# Altium footprint library Exam.PcbLib: 16 footprints
Each footprint in its own frame and in the unit in brackets; x right, y up, seen from the top. Pads: shape width x height; smd on the part's side, far side on the other; paste and mask are expansions set on the pad; w line width, h text height; cw(c..) or ccw(c..) is an arc to the next point about the centre after c.
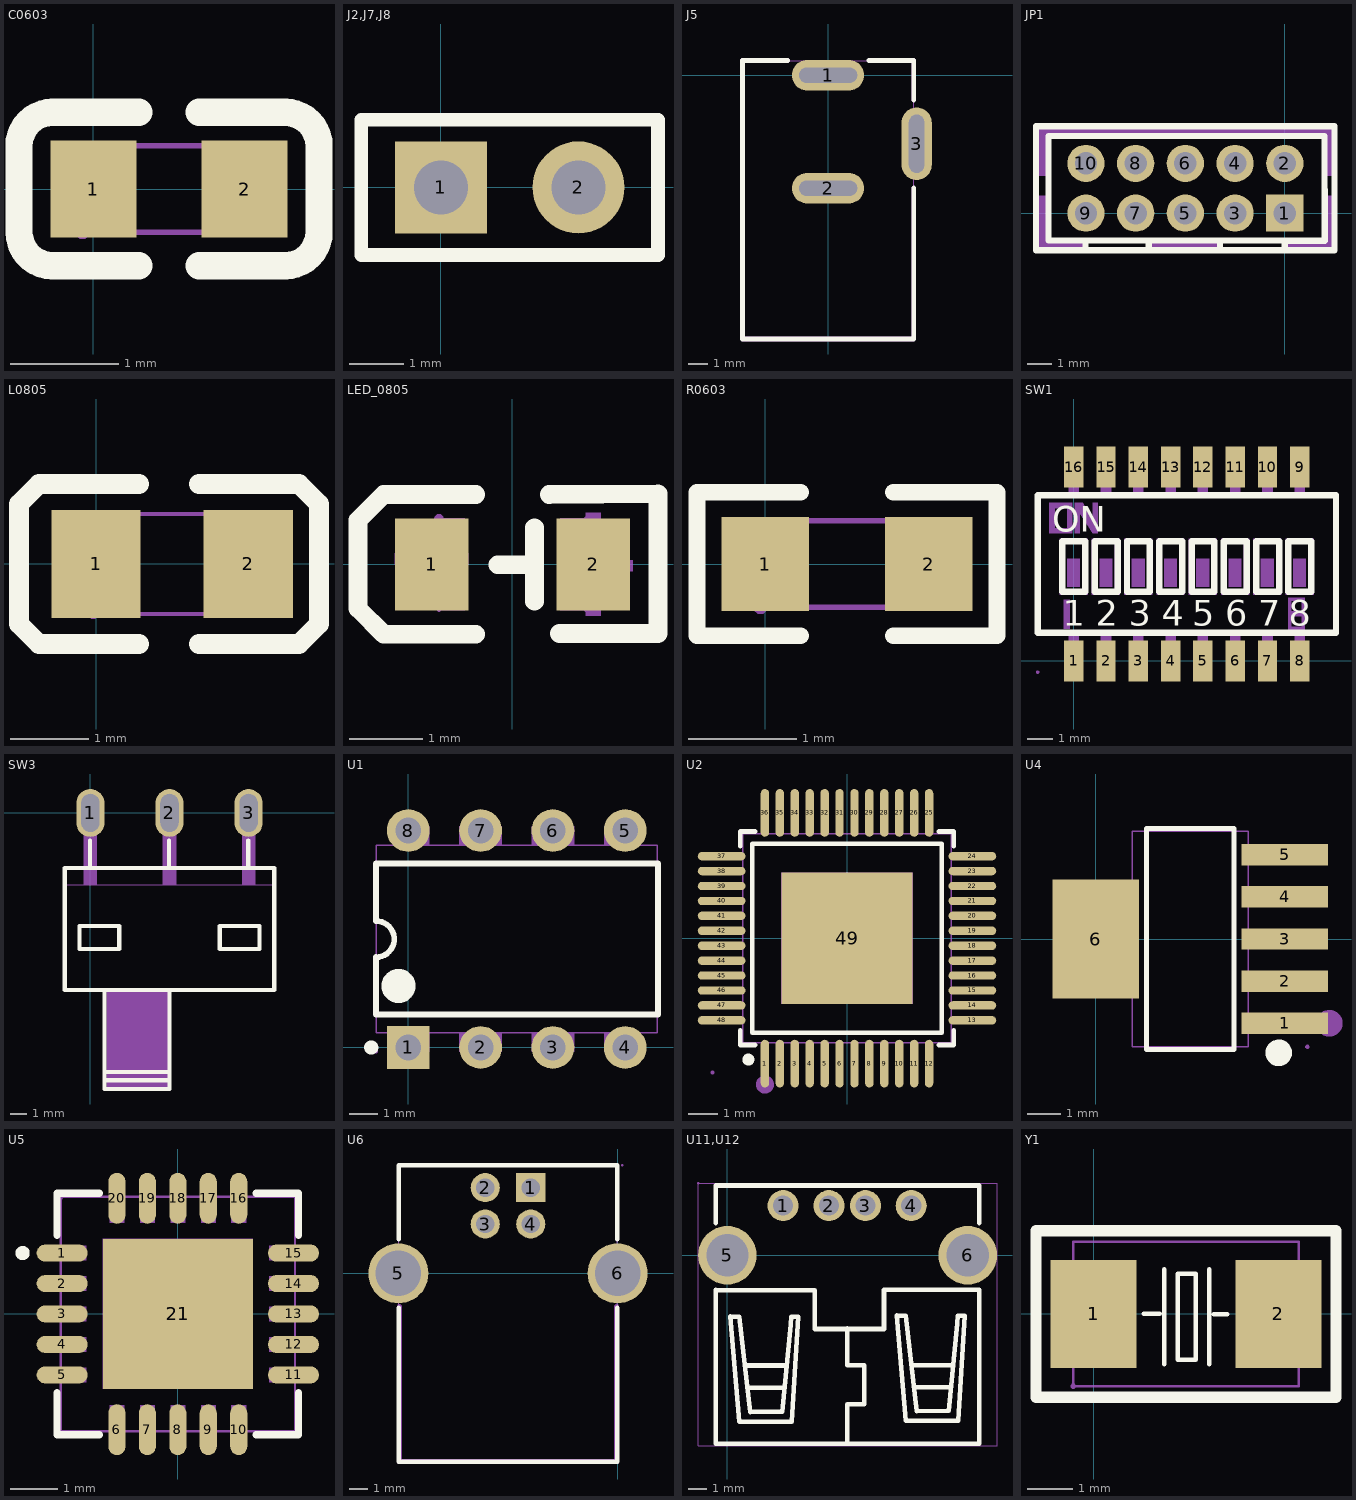
[diagram p0: the footprints below, top view; thin cyan lines are the x and y axes]

## C0603 [mm]
pads (2):
  rect 0.8x0.9 smd: 1(0,0) 2(1.4,0)
Top Overlay:
  lines w0.254: 0.42,-0.71 -0.38,-0.71 cw(c-0.38,-0.4) -0.69,-0.4 -0.69,0.4 cw(c-0.38,0.4) -0.38,0.71 0.42,0.71 ; 0.98,-0.71 1.78,-0.71 ccw(c1.78,-0.4) 2.09,-0.4 2.09,0.4 ccw(c1.78,0.4) 1.78,0.71 0.98,0.71
Mechanical 15:
  region: -0.04,-0.4 -0.04,-0.375 -0.075,-0.34 -0.125,-0.34 -0.16,-0.375 -0.16,-0.4 -0.16,-0.425 -0.125,-0.46 -0.075,-0.46 -0.04,-0.425
  region: -0.1,-0.4 -0.1,0.4 0.2,0.4 0.2,-0.4
  region: 1.5,-0.4 1.5,0.4 1.2,0.4 1.2,-0.4
  lines w0.051: -0.1,-0.4 -0.1,0.4 1.5,0.4 1.5,-0.4 -0.1,-0.4

## J2,J7,J8 [mm]
pads (2):
  rect 1.7x1.7 hole 1: 1(0,0)
  round 1.7 hole 1: 2(2.54,0)
Top Overlay:
  lines w0.254: -1.47,-1.25 4.01,-1.25 4.01,1.25 -1.47,1.25 -1.47,-1.25
Mechanical 15:
  region: 2.14,0.1 2.94,0.1 2.94,-0.1 2.14,-0.1
  region: -0.4,0.1 0.4,0.1 0.4,-0.1 -0.4,-0.1
  region: -1.41,-1.25 -1.41,-1.225 -1.445,-1.19 -1.495,-1.19 -1.53,-1.225 -1.53,-1.25 -1.53,-1.275 -1.495,-1.31 -1.445,-1.31 -1.41,-1.275
  lines w0.051: -1.47,-1.25 -1.47,1.25 4.01,1.25 4.01,-1.25 -1.47,-1.25

## J5 [mm]
pads (3):
  oval 3.8x1.6 hole 0.8 slot 3.05 at 0 deg paste-2539.97 mask+0.05: 1(0,0) 2(0,-5.93)
  oval 1.6x3.8 hole 0.8 slot 3.05 at 90 deg copper offset 0,0 paste-2539.97 mask+0.05: 3(4.65,-3.6)
Top Overlay:
  lines w0.254: -2.134,0.77 -4.5,0.77 -4.5,-13.85 4.5,-13.85 4.5,-5.93 ; 2.135,0.77 4.5,0.77 4.5,-1.3
Mechanical 6:
  lines w0.254: -2.135,0.77 -4.5,0.77 -4.5,-13.85 4.5,-13.85 4.5,-5.93 ; 2.135,0.77 4.5,0.77 4.5,-1.3
Mechanical 15:
  region: 4.8,-4.6 4.5,-4.6 4.5,-2.6 4.8,-2.6
  region: 1.25,0.15 1.25,-0.15 -1.25,-0.15 -1.25,0.15
  region: -1.25,-5.78 1.25,-5.78 1.25,-6.08 -1.25,-6.08
  region: -4.44,0.28 -4.44,0.305 -4.475,0.34 -4.525,0.34 -4.56,0.305 -4.56,0.28 -4.56,0.255 -4.525,0.22 -4.475,0.22 -4.44,0.255
  lines w0.051: -4.5,-13.85 -4.5,0.77 4.5,0.77 4.5,-13.85 -4.5,-13.85

## JP1 [mm]
pads (10):
  rect 1.5x1.5 hole 0.9 paste-2539.97 mask+0.05: 1(0,0)
  round 1.5 hole 0.9 paste-2539.97 mask+0.05: 2(0,2) 3(-2,0) 4(-2,2) 5(-4,0) 6(-4,2) 7(-6,0) 8(-6,2) 9(-8,0) 10(-8,2)
Top Overlay:
  lines w0.254: -10.01,-1.5 -10.01,3.5 ; -10,-1.5 2,-1.5 2,3.5 -10,3.5 ; -9.51,3.083 -9.51,-1.1 -8.019,-1.1 -8.019,-1.5 ; -9.51,3.09 1.6,3.099 1.61,-1.11 0,-1.11 0,-1.5 ; -8.19,-1.1 0.522,-1.1 ; -5.48,-1.5 -5.48,-1.1 ; -2.61,-1.5 -2.61,-1.1
Mechanical 6:
  region: -5.45,-1.5 -2.57,-1.5 -2.57,-1.12 -2.55,-1.1 -5.47,-1.1
  region: -8.1,-1.1 -9.5,-1.1 -9.5,0.7 -10,0.7 -10,-1.5 -8.1,-1.5
  region: 0.1,-1.1 1.5,-1.1 1.5,0.7 2,0.7 2,-1.5 0.1,-1.5
  region: -9.5,3.1 -9.5,1.5 -10,1.5 -10,3.5 2,3.5 2,1.5 1.6,1.5 1.6,3.1
Mechanical 15:
  region: 2.06,-1.5 2.06,-1.475 2.025,-1.44 1.975,-1.44 1.94,-1.475 1.94,-1.5 1.94,-1.525 1.975,-1.56 2.025,-1.56 2.06,-1.525
  region: -7.75,2.25 -7.75,1.75 -8.25,1.75 -8.25,2.25
  region: -7.75,0.25 -7.75,-0.25 -8.25,-0.25 -8.25,0.25
  region: 0.25,-0.25 -0.25,-0.25 -0.25,0.25 0.25,0.25
  region: -1.75,-0.25 -2.25,-0.25 -2.25,0.25 -1.75,0.25
  region: -3.75,-0.25 -4.25,-0.25 -4.25,0.25 -3.75,0.25
  region: -5.75,-0.25 -6.25,-0.25 -6.25,0.25 -5.75,0.25
  region: 0.25,2.25 0.25,1.75 -0.25,1.75 -0.25,2.25
  region: -1.75,2.25 -1.75,1.75 -2.25,1.75 -2.25,2.25
  region: -3.75,2.25 -3.75,1.75 -4.25,1.75 -4.25,2.25
  region: -5.75,2.25 -5.75,1.75 -6.25,1.75 -6.25,2.25
  lines w0.051: -10,-1.5 -10,3.5 2,3.5 2,-1.5 -10,-1.5

## L0805 [mm]
pads (2):
  rect 1.133x1.377 smd paste-100 mask+0.051: 1(0,0) 2(1.932,0)
Top Overlay:
  lines w0.254: 0.545,-1.016 -0.725,-1.016 -0.979,-0.762 -0.979,-0.635 -0.979,0.762 -0.725,1.016 -0.598,1.016 0.545,1.016 ; 1.307,-1.016 2.45,-1.016 2.577,-1.016 2.831,-0.762 2.831,0.635 2.831,0.762 2.577,1.016 1.307,1.016
Top Paste:
  region: 0.606,-0.22 0.606,0.22 0.221,0.689 -0.466,0.689 -0.566,0.589 -0.566,-0.588 -0.466,-0.688 0.221,-0.688
  region: 1.326,-0.22 1.326,0.22 1.711,0.689 2.399,0.689 2.499,0.589 2.499,-0.588 2.399,-0.688 1.711,-0.688
Mechanical 15:
  region: 0.026,-0.637 0.026,-0.613 -0.009,-0.577 -0.059,-0.577 -0.094,-0.612 -0.094,-0.637 -0.094,-0.662 -0.059,-0.697 -0.009,-0.697 0.026,-0.662
  region: 1.966,-0.637 1.966,0.638 1.566,0.638 1.566,-0.637
  region: -0.034,-0.637 -0.034,0.638 0.366,0.638 0.366,-0.637
  lines w0.051: -0.034,-0.637 -0.034,0.638 1.966,0.638 1.966,-0.637 -0.034,-0.637

## LED_0805 [mm]
pads (2):
  rect 1x1.25 smd: 1(-1.1,0) 2(1.1,0)
Top Overlay:
  lines w0.254: -0.5,-0.95 -1.75,-0.95 ; -0.5,0.95 -1.75,0.95 ; -0.2,-0.005 0.3,-0.005 ; 0.3,-0.5 0.3,0.5 ; 0.5,0.95 1.98,0.96 1.98,-0.94 0.64,-0.94 ; -1.75,-0.95 -2.1,-0.6 -2.1,0.6 -1.75,0.95 ; -1.75,-0.95 -1.75,-0.95 ; -1.75,0.95 -1.75,0.95
Mechanical 6:
  region: -1.6,0 -0.6,0 -0.6,0.15 -1.6,0.15
  region: 0.635,-0.094 1.635,-0.094 1.635,0.056 0.635,0.056
  region: 1,0.7 1.2,0.7 1.2,-0.7 1,-0.7
Mechanical 15:
  region: -0.94,0.625 -0.941,0.649 -0.976,0.683 -1.024,0.683 -1.059,0.649 -1.06,0.625 -1.059,0.601 -1.024,0.568 -0.976,0.568 -0.941,0.601 -0.94,0.625
  region: -0.65,-0.625 -1,-0.625 -1,0.625 -0.65,0.625
  region: 1,-0.625 0.65,-0.625 0.65,0.625 1,0.625
  lines w0.051: -1,-0.625 -1,0.625 ; 1,-0.625 1,0.625

## R0603 [mm]
pads (2):
  rect 0.806x0.864 smd paste-100 mask+0.051: 1(0,0) 2(1.507,0)
Top Overlay:
  lines w0.152: 0.327,-0.661 -0.632,-0.661 -0.632,0.661 0.327,0.661 ; 1.18,-0.661 2.138,-0.661 2.138,0.661 1.18,0.661
Top Paste:
  region: 1.948,0.45 1.148,0.45 1.098,0.4 1.098,0.172 1.468,0.172 1.468,-0.158 1.098,-0.158 1.098,-0.4 1.148,-0.45 1.948,-0.45 1.998,-0.4 1.998,0.4
  region: -0.442,-0.45 0.358,-0.45 0.408,-0.4 0.408,-0.172 0.038,-0.172 0.038,0.158 0.408,0.158 0.408,0.4 0.358,0.45 -0.442,0.45 -0.492,0.4 -0.492,-0.4
Mechanical 15:
  region: 0.013,-0.4 0.013,-0.375 -0.022,-0.34 -0.072,-0.34 -0.107,-0.375 -0.107,-0.4 -0.107,-0.425 -0.072,-0.46 -0.022,-0.46 0.013,-0.425
  region: -0.047,-0.4 -0.047,0.4 0.253,0.4 0.253,-0.4
  region: 1.553,-0.4 1.553,0.4 1.253,0.4 1.253,-0.4
  lines w0.051: -0.047,-0.4 -0.047,0.4 1.553,0.4 1.553,-0.4 -0.047,-0.4

## SW1 [mm]
pads (16):
  rect 0.76x1.6 smd: 1(0,0) 2(1.27,0) 3(2.54,0) 4(3.81,0) 5(5.08,0) 6(6.35,0) 7(7.62,0) 8(8.89,0) 9(8.89,7.63) 10(7.62,7.63) 11(6.35,7.63) 12(5.08,7.63) 13(3.81,7.63) 14(2.54,7.63) 15(1.27,7.63) 16(0,7.63)
Top Overlay:
  lines w0.254: -1.425,1.115 10.315,1.115 10.315,6.515 -1.425,6.515 -1.425,1.115 ; -0.445,2.715 -0.445,4.715 0.455,4.715 0.455,2.715 -0.445,2.715 ; 0.825,2.715 0.825,4.715 1.725,4.715 1.725,2.715 0.825,2.715 ; 2.095,2.715 2.095,4.715 2.995,4.715 2.995,2.715 2.095,2.715 ; 3.365,2.715 3.365,4.715 4.265,4.715 4.265,2.715 3.365,2.715 ; 4.635,2.715 4.635,4.715 5.535,4.715 5.535,2.715 4.635,2.715 ; 5.905,2.715 5.905,4.715 6.805,4.715 6.805,2.715 5.905,2.715 ; 7.175,2.715 7.175,4.715 8.075,4.715 8.075,2.715 7.175,2.715 ; 8.445,2.715 8.445,4.715 9.345,4.715 9.345,2.715 8.445,2.715
  text "ON" at -0.84,5.083 h1
  text "1" at -0.439,1.394 h1
  text "2" at 0.861,1.394 h1
  text "3" at 2.161,1.394 h1
  text "4" at 3.461,1.394 h1
  text "5" at 4.661,1.394 h1
  text "6" at 5.961,1.395 h1
  text "7" at 7.261,1.394 h1
  text "8" at 8.461,1.395 h1
Mechanical 6:
  drawing of 36 lines, arcs and shapes, not listed
Mechanical 15:
  drawing of 37 lines, arcs and shapes, not listed

## SW3 [mm]
pads (3):
  oval 1.7x2.9 hole 1.1 slot 2.3 at 90 deg paste-2539.97 mask+0.05: 1(0,0) 2(4.8,0) 3(9.6,0)
Top Overlay:
  lines w0.254: -1.55,-3.35 11.15,-3.35 ; -1.55,-3.344 -1.55,-10.75 11.15,-10.75 11.15,-3.395 ; -0.026,-3.175 -0.026,-1.681 ; 0.863,-16.75 0.863,-10.75 ; 0.863,-16.222 4.8,-16.222 ; 0.863,-15.714 4.8,-15.714 ; 0.9,-16.75 4.8,-16.75 4.8,-10.75 ; 4.774,-3.175 4.774,-1.681 ; 9.574,-3.175 9.574,-1.681 ; -0.661,-8.255 -0.661,-6.858 1.752,-6.858 1.752,-8.255 -0.661,-8.255 ; 7.848,-8.255 7.848,-6.858 10.261,-6.858 10.261,-8.255 7.848,-8.255
Mechanical 6:
  region: 1,-10.8 1,-16.7 4.7,-16.7 4.7,-10.8
Mechanical 15:
  region: -0.4,0.65 0.4,0.65 0.4,-4.36 -0.4,-4.36
  region: 9.2,0.65 10,0.65 10,-4.36 9.2,-4.36
  region: 4.4,0.65 5.2,0.65 5.2,-4.36 4.4,-4.36
  region: 9.2,0.65 10,0.65 10,-0.65 9.2,-0.65
  region: 4.4,0.65 5.2,0.65 5.2,-0.65 4.4,-0.65
  region: -0.4,0.65 0.4,0.65 0.4,-0.65 -0.4,-0.65
  region: -1.49,-10.75 -1.49,-10.725 -1.525,-10.69 -1.575,-10.69 -1.61,-10.725 -1.61,-10.75 -1.61,-10.775 -1.575,-10.81 -1.525,-10.81 -1.49,-10.775
  lines w0.051: -1.55,-10.75 11.15,-10.75 11.15,-4.35 -1.55,-4.35 -1.55,-10.75

## U1 [mm]
pads (8):
  rect 1.5x1.5 hole 0.9: 1(0,0)
  round 1.5 hole 0.9: 2(2.54,0) 3(5.08,0) 4(7.62,0) 5(7.62,7.62) 6(5.08,7.62) 7(2.54,7.62) 8(0,7.62)
Top Overlay:
  lines w0.2: -1.13,4.44 cw(c-1.13,3.805) -1.13,3.17 -1.13,3.175 -1.13,1.161 8.771,1.161 8.771,6.459 -1.13,6.459 -1.13,4.445 -1.13,4.45
  lines w0.25: -1.425,0 ccw(c-1.3,0.001) -1.175,0.001 ccw(c-1.3,0.001) -1.425,0.003
  lines w0.6: -0.64,2.159 ccw(c-0.34,2.162) -0.04,2.162 ccw(c-0.34,2.162) -0.64,2.164
Mechanical 15:
  region: 5.823,7.766 5.823,7.1 4.337,7.1 4.337,7.766
  region: 3.283,7.766 3.283,7.1 1.797,7.1 1.797,7.766
  region: 4.337,-0.146 4.337,0.52 5.823,0.52 5.823,-0.146
  region: 1.797,-0.146 1.797,0.52 3.283,0.52 3.283,-0.146
  region: 6.877,-0.146 6.877,0.52 7.848,0.52 7.848,-0.146
  region: 0.743,7.766 0.743,7.1 -0.228,7.1 -0.228,7.766
  region: 7.848,7.766 7.848,7.1 6.877,7.1 6.877,7.766
  region: -0.228,-0.146 -0.228,0.52 0.743,0.52 0.743,-0.146
  region: -0.228,0.146 0.228,0.146 0.228,-0.146 -0.228,-0.146
  region: 2.768,0.146 2.768,-0.146 2.312,-0.146 2.312,0.146
  region: 5.308,0.146 5.308,-0.146 4.852,-0.146 4.852,0.146
  region: 7.848,0.146 7.848,-0.146 7.392,-0.146 7.392,0.146
  region: 0.228,7.766 0.228,7.474 -0.228,7.474 -0.228,7.766
  region: 2.768,7.766 2.768,7.474 2.312,7.474 2.312,7.766
  region: 5.308,7.766 5.308,7.474 4.852,7.474 4.852,7.766
  region: 7.848,7.766 7.848,7.474 7.392,7.474 7.392,7.766
  region: -1.07,-0.146 -1.07,-0.121 -1.105,-0.086 -1.155,-0.086 -1.19,-0.121 -1.19,-0.146 -1.19,-0.171 -1.155,-0.206 -1.105,-0.206 -1.07,-0.171
  lines w0.051: -1.13,0.51 -1.13,7.11 8.75,7.11 8.75,0.51 -1.13,0.51

## U2 [mm]
pads (49):
  oval 0.28x1.6 smd: 1(-2.75,-4.2) 2(-2.25,-4.2) 3(-1.75,-4.2) 4(-1.25,-4.2) 5(-0.75,-4.2) 6(-0.25,-4.2) 7(0.25,-4.2) 8(0.75,-4.2) 9(1.25,-4.2) 10(1.75,-4.2) 11(2.25,-4.2) 12(2.75,-4.2) 25(2.75,4.2) 26(2.25,4.2) 27(1.75,4.2) 28(1.25,4.2) 29(0.75,4.2) 30(0.25,4.2) 31(-0.25,4.2) 32(-0.75,4.2) 33(-1.25,4.2) 34(-1.75,4.2) 35(-2.25,4.2) 36(-2.75,4.2)
  oval 1.6x0.28 smd: 13(4.2,-2.75) 14(4.2,-2.25) 15(4.2,-1.75) 16(4.2,-1.25) 17(4.2,-0.75) 18(4.2,-0.25) 19(4.2,0.25) 20(4.2,0.75) 21(4.2,1.25) 22(4.2,1.75) 23(4.2,2.25) 24(4.2,2.75) 37(-4.2,2.75) 38(-4.2,2.25) 39(-4.2,1.75) 40(-4.2,1.25) 41(-4.2,0.75) 42(-4.2,0.25) 43(-4.2,-0.25) 44(-4.2,-0.75) 45(-4.2,-1.25) 46(-4.2,-1.75) 47(-4.2,-2.25) 48(-4.2,-2.75)
  rect 4.4x4.4 smd: 49(0,0)
Top Overlay:
  circle w0.2: c-3.302,-4.064 r0.1
  lines w0.152: -3.576,-3.08 -3.576,-3.576 -3.08,-3.576 ; -3.576,3.08 -3.576,3.576 -3.08,3.576 ; 3.08,-3.576 3.576,-3.576 3.576,-3.08 ; 3.08,3.576 3.576,3.576 3.576,3.08 ; -3.171,-3.171 3.171,-3.171 3.171,3.171 -3.171,3.171 -3.171,-3.171
Mechanical 6:
  circle w0.3: c-2.75,-4.9 r0.15
Mechanical 15:
  drawing of 102 lines, arcs and shapes, not listed

## U4 [mm]
pads (6):
  rect 2.595x0.644 smd: 1(5.695,-2.54) 2(5.695,-1.27) 3(5.695,0) 4(5.695,1.27) 5(5.695,2.54)
  rect 2.595x3.6 smd: 6(0,0)
Top Overlay:
  circle w0.4: c5.515,-3.429 r0.2
  lines w0.152: 1.526,-3.326 4.169,-3.326 4.169,3.326 1.526,3.326 1.526,-3.326
Mechanical 6:
  circle w0.4: c7.039,-2.54 r0.2
Mechanical 15:
  region: 5.353,-2.77 5.353,-2.31 6.378,-2.31 6.378,-2.77
  region: 4.588,-2.77 4.588,-2.31 5.363,-2.31 5.363,-2.77
  region: 5.353,-1.5 5.353,-1.04 6.378,-1.04 6.378,-1.5
  region: 4.588,-1.5 4.588,-1.04 5.363,-1.04 5.363,-1.5
  region: 5.353,-0.23 5.353,0.23 6.378,0.23 6.378,-0.23
  region: 4.588,-0.23 4.588,0.23 5.363,0.23 5.363,-0.23
  region: 5.353,1.04 5.353,1.5 6.378,1.5 6.378,1.04
  region: 4.588,1.04 4.588,1.5 5.363,1.5 5.363,1.04
  region: 5.353,2.31 5.353,2.77 6.378,2.77 6.378,2.31
  region: 4.588,2.31 4.588,2.77 5.363,2.77 5.363,2.31
  region: 0.343,-1.5 0.343,1.5 -0.682,1.5 -0.682,-1.5
  region: 0.333,-1.5 0.333,1.5 1.108,1.5 1.108,-1.5
  region: 6.438,-3.25 6.438,-3.225 6.403,-3.19 6.353,-3.19 6.318,-3.225 6.318,-3.25 6.318,-3.275 6.353,-3.31 6.403,-3.31 6.438,-3.275
  lines w0.051: 1.098,-3.25 4.598,-3.25 4.598,3.25 1.098,3.25 1.098,-3.25

## U5 [mm]
pads (21):
  oval 1.087x0.364 smd paste-100 mask+0.051: 1(-2.468,1.3) 2(-2.468,0.65) 3(-2.468,0) 4(-2.468,-0.65) 5(-2.468,-1.3) 11(2.469,-1.3) 12(2.469,-0.65) 13(2.469,0) 14(2.469,0.65) 15(2.469,1.3)
  oval 0.364x1.087 smd paste-100 mask+0.051: 6(-1.3,-2.469) 7(-0.65,-2.469) 8(0,-2.469) 9(0.65,-2.469) 10(1.3,-2.469) 16(1.3,2.468) 17(0.65,2.468) 18(0,2.468) 19(-0.65,2.468) 20(-1.3,2.468)
  rect 3.2x3.2 smd paste-100 mask+0.051: 21(0,0)
Top Overlay:
  circle w0.153: c-3.312,1.3 r0.076
  lines w0.152: -2.576,-1.673 -2.576,-2.576 -1.673,-2.576 ; -2.576,1.673 -2.576,2.576 -1.673,2.576 ; 1.672,-2.576 2.576,-2.576 2.576,-1.673 ; 1.672,2.576 2.576,2.576 2.576,1.673
Top Paste:
  drawing of 21 lines, arcs and shapes, not listed
Mechanical 15:
  region: -2.44,2.5 -2.44,2.524 -2.475,2.559 -2.524,2.559 -2.559,2.524 -2.56,2.5 -2.559,2.475 -2.524,2.441 -2.475,2.441 -2.44,2.475
  region: -1.6,1.6 1.6,1.6 1.6,-1.6 -1.6,-1.6
  region: -2.5,1.455 -1.95,1.455 -1.95,1.145 -2.5,1.145
  region: -2.5,0.805 -1.95,0.805 -1.95,0.495 -2.5,0.495
  region: -2.5,0.155 -1.95,0.155 -1.95,-0.155 -2.5,-0.155
  region: -2.5,-0.495 -1.95,-0.495 -1.95,-0.805 -2.5,-0.805
  region: -2.5,-1.145 -1.95,-1.145 -1.95,-1.455 -2.5,-1.455
  region: -1.455,-1.95 -1.145,-1.95 -1.145,-2.5 -1.455,-2.5
  region: -0.805,-1.95 -0.495,-1.95 -0.495,-2.5 -0.805,-2.5
  region: -0.155,-1.95 0.155,-1.95 0.155,-2.5 -0.155,-2.5
  region: 0.495,-1.95 0.805,-1.95 0.805,-2.5 0.495,-2.5
  region: 1.145,-1.95 1.455,-1.95 1.455,-2.5 1.145,-2.5
  region: 1.95,-1.145 2.5,-1.145 2.5,-1.455 1.95,-1.455
  region: 1.95,-0.495 2.5,-0.495 2.5,-0.805 1.95,-0.805
  region: 1.95,0.155 2.5,0.155 2.5,-0.155 1.95,-0.155
  region: 1.95,0.805 2.5,0.805 2.5,0.495 1.95,0.495
  region: 1.95,1.455 2.5,1.455 2.5,1.145 1.95,1.145
  region: 1.145,2.5 1.455,2.5 1.455,1.95 1.145,1.95
  region: 0.495,2.5 0.805,2.5 0.805,1.95 0.495,1.95
  region: -0.155,2.5 0.155,2.5 0.155,1.95 -0.155,1.95
  region: -0.805,2.5 -0.495,2.5 -0.495,1.95 -0.805,1.95
  region: -1.455,2.5 -1.145,2.5 -1.145,1.95 -1.455,1.95
  lines w0.051: -2.5,-2.5 -2.5,2.5 2.5,2.5 2.5,-2.5 -2.5,-2.5

## U6 [mm]
pads (6):
  rect 1.6x1.6 hole 1 paste-2539.97 mask+0.05: 1(-4.77,4.71)
  round 1.6 hole 1 paste-2539.97 mask+0.05: 2(-7.27,4.71) 3(-7.27,2.71) 4(-4.77,2.71)
  round 3.3 hole 2.5 paste-2539.97 mask+0.05: 5(-12.04,0) 6(0,0)
Top Overlay:
  lines w0.254: -12.02,-1.881 -12.02,-10.35 -0.02,-10.35 -0.02,-1.881 ; -12.02,1.881 -12.02,5.95 -0.02,5.95 -0.02,1.881
Mechanical 6:
  region: -11.862,-1.836 -11.862,-10.218 -0.178,-10.218 -0.178,-1.836 -0.178,-1.784 -0.104,-1.709 0.001,-1.709 0.076,-1.784 0.076,-1.836 0.076,-10.345 0.076,-10.37 0.056,-10.417 0.021,-10.453 -0.026,-10.472 -0.051,-10.472 -11.989,-10.472 -12.014,-10.472 -12.061,-10.453 -12.097,-10.417 -12.116,-10.37 -12.116,-10.345 -12.116,-1.836 -12.116,-1.784 -12.042,-1.709 -11.937,-1.709 -11.862,-1.784
Mechanical 15:
  region: -12.29,1 -11.79,1 -11.79,-1 -12.29,-1
  region: -0.25,1 0.25,1 0.25,-1 -0.25,-1
  region: -5.17,4.86 -4.37,4.86 -4.37,4.56 -5.17,4.56
  region: -7.67,4.86 -6.87,4.86 -6.87,4.56 -7.67,4.56
  region: -7.67,2.86 -6.87,2.86 -6.87,2.56 -7.67,2.56
  region: -5.17,2.86 -4.37,2.86 -4.37,2.56 -5.17,2.56
  region: 0.31,5.95 0.31,5.975 0.275,6.01 0.225,6.01 0.19,5.975 0.19,5.95 0.19,5.925 0.225,5.89 0.275,5.89 0.31,5.925
  lines w0.051: -12.02,-10.35 -0.02,-10.35 -0.02,5.95 -12.02,5.95 -12.02,-10.35

## U11,U12 [mm]
pads (6):
  round 1.7 hole 1.1: 1(3.05,2.71) 2(5.551,2.71) 3(7.55,2.71) 4(10.05,2.71)
  round 3.2 hole 2.3: 5(0,0) 6(13.14,0)
Top Overlay:
  lines w0.254: -0.629,-1.881 -0.629,-10.3 13.771,-10.3 13.771,-1.881 ; -0.629,1.759 -0.629,3.815 13.771,3.815 13.771,1.759 ; -0.62,-1.911 4.78,-1.911 4.78,-4.03 8.56,-4.03 8.56,-1.89 13.76,-1.89 ; 0.961,-6.03 3.221,-6.03 ; 1.101,-7.24 3.131,-7.24 ; 6.56,-10.17 6.56,-8.14 7.48,-8.14 7.48,-6.021 6.56,-6.021 6.56,-4 ; 10.06,-6.011 12.32,-6.011 ; 10.2,-7.221 12.23,-7.221 ; 0.15,-3.351 0.645,-9.086 3.529,-9.097 3.879,-3.354 3.498,-3.354 3.468,-3.784 2.994,-8.562 1.245,-8.573 1.169,-7.895 0.659,-3.355 0.15,-3.351 ; 9.252,-3.297 9.747,-9.032 12.63,-9.043 12.98,-3.3 12.6,-3.3 12.57,-3.73 12.096,-8.509 10.346,-8.519 10.271,-7.841 9.76,-3.301 9.252,-3.297
Mechanical 15:
  region: 10.5,2.71 10.499,2.799 10.429,2.962 10.303,3.087 10.139,3.155 9.961,3.155 9.797,3.087 9.67,2.962 9.601,2.799 9.6,2.71 9.601,2.621 9.67,2.458 9.797,2.333 9.961,2.265 10.139,2.265 10.303,2.333 10.429,2.458 10.499,2.621
  region: 8,2.71 7.999,2.799 7.93,2.962 7.804,3.087 7.639,3.155 7.462,3.155 7.297,3.087 7.171,2.962 7.102,2.799 7.1,2.71 7.102,2.621 7.171,2.458 7.297,2.333 7.462,2.265 7.639,2.265 7.804,2.333 7.93,2.458 7.999,2.621
  region: 6.001,2.71 6,2.799 5.931,2.962 5.805,3.087 5.64,3.155 5.463,3.155 5.298,3.087 5.172,2.962 5.103,2.799 5.102,2.71 5.103,2.621 5.172,2.458 5.298,2.333 5.463,2.265 5.64,2.265 5.805,2.333 5.931,2.458 6,2.621
  region: 3.5,2.71 3.499,2.799 3.429,2.962 3.303,3.087 3.138,3.155 2.961,3.155 2.797,3.087 2.67,2.962 2.601,2.799 2.6,2.71 2.601,2.621 2.67,2.458 2.796,2.333 2.961,2.265 3.138,2.265 3.303,2.333 3.429,2.458 3.498,2.621
  region: 1.05,0 1.049,0.137 0.975,0.402 0.836,0.639 0.641,0.832 0.403,0.968 0.137,1.039 -0.137,1.039 -0.403,0.969 -0.641,0.832 -0.836,0.639 -0.975,0.402 -1.048,0.137 -1.05,0 -1.048,-0.137 -0.975,-0.402 -0.836,-0.639 -0.641,-0.832 -0.403,-0.968 -0.137,-1.039 0.137,-1.039 0.403,-0.968 0.641,-0.832 0.836,-0.639 0.975,-0.402 1.049,-0.137
  region: 14.19,0 14.189,0.137 14.115,0.402 13.976,0.639 13.781,0.832 13.543,0.968 13.277,1.039 13.003,1.039 12.737,0.969 12.499,0.832 12.304,0.639 12.165,0.402 12.092,0.137 12.09,0 12.091,-0.137 12.165,-0.402 12.304,-0.639 12.499,-0.832 12.737,-0.968 13.003,-1.039 13.277,-1.039 13.543,-0.968 13.781,-0.832 13.976,-0.639 14.115,-0.402 14.189,-0.137
  region: -1.54,3.942 -1.54,3.967 -1.575,4.002 -1.625,4.002 -1.66,3.967 -1.66,3.942 -1.66,3.918 -1.625,3.882 -1.575,3.882 -1.54,3.918
  lines w0.051: -1.6,-10.427 14.74,-10.427 14.74,3.942 -1.6,3.942 -1.6,-10.427

## Y1 [mm]
pads (2):
  rect 1.9x2.4 smd: 1(0,0) 2(4.1,0)
Top Overlay:
  lines w0.1: 1.11,0 1.466,0 ; 1.567,-1.11 1.567,0.991 ; 2.567,-1.11 2.567,0.991 ; 2.667,-0.009 2.967,-0.009 ; 1.867,-1.009 2.267,-1.009 2.267,0.89 1.867,0.89 1.867,-1.009
  lines w0.254: -1.275,-1.85 -1.275,-0.7 -1.275,0.7 -1.275,1.85 5.375,1.85 5.375,0.7 5.375,-0.7 5.375,-1.85 -1.275,-1.85
Mechanical 15:
  region: 3.35,1 4.45,1 4.45,-1 3.35,-1
  region: -0.35,1 0.75,1 0.75,-1 -0.35,-1
  region: -0.39,-1.6 -0.39,-1.575 -0.425,-1.54 -0.475,-1.54 -0.51,-1.575 -0.51,-1.6 -0.51,-1.625 -0.475,-1.66 -0.425,-1.66 -0.39,-1.625
  lines w0.051: -0.45,-1.6 4.55,-1.6 4.55,1.6 -0.45,1.6 -0.45,-1.6